# Altium integrated library Diodes - TVS.IntLib: 5379 symbols (part 38 of 122)
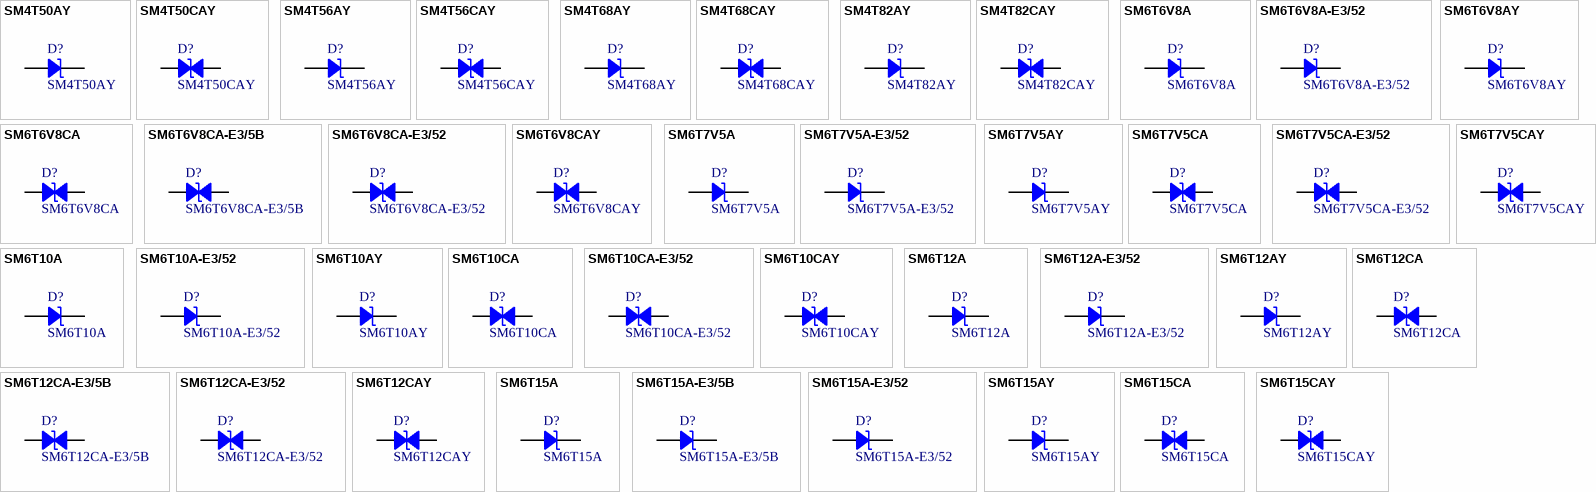
[diagram p171: symbols SM4T50AY to SM6T15CAY]

## SM4T56AY
designator D?
TVS DIODE 48V 100V SMA; Manufacturer: STMicroelectronics; Current - Peak Pulse (10/1000µs): 23A (8/20µs); Power Line Protection: No; Power - Peak Pulse: 400W; Type: Zener; Unidirectional Channels: 1; Voltage - Breakdown (Min): 53.3V; Part Number: SM4T56AY; Applications: Automotive; ComponentLink1Description: Datasheet; ComponentLink1URL: http://www.st.com/content/ccc/resource/technical/document/datasheet/8f/86/c4/c9/63/e2/4c/58/CD00283395.pdf/files/CD00283395.pdf/jcr:content/translations/en.CD00283395.pdf; ComponentLink2Description: DigiKey Link; ComponentLink2URL: http://digikey.com/product-detail/en/stmicroelectronics/SM4T56AY/497-10928-1-ND/2522551; LastUpdated: 9/2/2020 1:20:14 AM; Lifecycle Status: Active; Minimum Order: 1; Mounting Type: Surface Mount; Operating Temperature: -55°C ~ 150°C (TJ); Package / Case: DO-214AC, SMA; Packaging: TapeAndReel; PartId: 5736; Part Status: Active; Price: 0.30; Series: Automotive, AEC-Q101, SM4TY, TRANSIL™; Supplier 1: DigiKey; Supplier Part Number 1: 497-10928-1-ND; Supplier Device Package: SMA (DO-214AC); Voltage - Clamping (Max) @ Ipp: 100V; Voltage - Reverse Standoff (Typ): 48V
footprint DO214AC SMA
pins: 1, 2

## SM4T56CAY
designator D?
TVS DIODE 48V 100V SMA; Manufacturer: STMicroelectronics; Bidirectional Channels: 1; Current - Peak Pulse (10/1000µs): 23A (8/20µs); Power Line Protection: No; Power - Peak Pulse: 400W; Type: Zener; Voltage - Breakdown (Min): 53.3V; Part Number: SM4T56CAY; Applications: Automotive; ComponentLink1Description: Datasheet; ComponentLink1URL: http://www.st.com/content/ccc/resource/technical/document/datasheet/8f/86/c4/c9/63/e2/4c/58/CD00283395.pdf/files/CD00283395.pdf/jcr:content/translations/en.CD00283395.pdf; ComponentLink2Description: DigiKey Link; ComponentLink2URL: http://digikey.com/product-detail/en/stmicroelectronics/SM4T56CAY/497-10929-1-ND/2522552; LastUpdated: 9/2/2020 1:27:53 AM; Lifecycle Status: Active; Minimum Order: 1; Mounting Type: Surface Mount; Operating Temperature: -55°C ~ 150°C (TJ); Package / Case: DO-214AC, SMA; Packaging: TapeAndReel; PartId: 7537; Part Status: Active; Price: 0.31; Series: Automotive, AEC-Q101, SM4TY, TRANSIL™; Supplier 1: DigiKey; Supplier Part Number 1: 497-10929-1-ND; Supplier Device Package: SMA (DO-214AC); Voltage - Clamping (Max) @ Ipp: 100V; Voltage - Reverse Standoff (Typ): 48V
footprint DO214AC SMA
pins: 1, 2

## SM4T68AY
designator D?
TVS DIODE 58V 121V SMA; Manufacturer: STMicroelectronics; Current - Peak Pulse (10/1000µs): 19A (8/20µs); Power Line Protection: No; Power - Peak Pulse: 400W; Type: Zener; Unidirectional Channels: 1; Voltage - Breakdown (Min): 64.4V; Part Number: SM4T68AY; Applications: Automotive; ComponentLink1Description: Datasheet; ComponentLink1URL: http://www.st.com/content/ccc/resource/technical/document/datasheet/8f/86/c4/c9/63/e2/4c/58/CD00283395.pdf/files/CD00283395.pdf/jcr:content/translations/en.CD00283395.pdf; ComponentLink2Description: DigiKey Link; ComponentLink2URL: http://digikey.com/product-detail/en/stmicroelectronics/SM4T68AY/497-10930-1-ND/2522553; LastUpdated: 9/2/2020 1:20:14 AM; Lifecycle Status: Active; Minimum Order: 1; Mounting Type: Surface Mount; Operating Temperature: -55°C ~ 150°C (TJ); Package / Case: DO-214AC, SMA; Packaging: TapeAndReel; PartId: 5735; Part Status: Active; Price: 0.30; Series: Automotive, AEC-Q101, SM4TY, TRANSIL™; Supplier 1: DigiKey; Supplier Part Number 1: 497-10930-1-ND; Supplier Device Package: SMA (DO-214AC); Voltage - Clamping (Max) @ Ipp: 121V; Voltage - Reverse Standoff (Typ): 58V
footprint DO214AC SMA
pins: 1, 2

## SM4T68CAY
designator D?
TVS DIODE 58V 121V SMA; Manufacturer: STMicroelectronics; Bidirectional Channels: 1; Current - Peak Pulse (10/1000µs): 19A (8/20µs); Power Line Protection: No; Power - Peak Pulse: 400W; Type: Zener; Voltage - Breakdown (Min): 64.4V; Part Number: SM4T68CAY; Applications: Automotive; ComponentLink1Description: Datasheet; ComponentLink1URL: http://www.st.com/content/ccc/resource/technical/document/datasheet/8f/86/c4/c9/63/e2/4c/58/CD00283395.pdf/files/CD00283395.pdf/jcr:content/translations/en.CD00283395.pdf; ComponentLink2Description: DigiKey Link; ComponentLink2URL: http://digikey.com/product-detail/en/stmicroelectronics/SM4T68CAY/497-10931-1-ND/2522554; LastUpdated: 9/2/2020 1:27:51 AM; Lifecycle Status: Active; Minimum Order: 1; Mounting Type: Surface Mount; Operating Temperature: -55°C ~ 150°C (TJ); Package / Case: DO-214AC, SMA; Packaging: TapeAndReel; PartId: 7396; Part Status: Active; Price: 0.31; Series: Automotive, AEC-Q101, SM4TY, TRANSIL™; Supplier 1: DigiKey; Supplier Part Number 1: 497-10931-1-ND; Supplier Device Package: SMA (DO-214AC); Voltage - Clamping (Max) @ Ipp: 121V; Voltage - Reverse Standoff (Typ): 58V
footprint DO214AC SMA
pins: 1, 2

## SM4T82AY
designator D?
TVS DIODE 70V 146V SMA; Manufacturer: STMicroelectronics; Current - Peak Pulse (10/1000µs): 16A (8/20µs); Power Line Protection: No; Power - Peak Pulse: 400W; Type: Zener; Unidirectional Channels: 1; Voltage - Breakdown (Min): 77.8V; Part Number: SM4T82AY; Applications: Automotive; ComponentLink1Description: Datasheet; ComponentLink1URL: http://www.st.com/content/ccc/resource/technical/document/datasheet/8f/86/c4/c9/63/e2/4c/58/CD00283395.pdf/files/CD00283395.pdf/jcr:content/translations/en.CD00283395.pdf; ComponentLink2Description: DigiKey Link; ComponentLink2URL: http://digikey.com/product-detail/en/stmicroelectronics/SM4T82AY/497-11801-1-ND/2756615; LastUpdated: 9/2/2020 1:20:14 AM; Lifecycle Status: Active; Minimum Order: 1; Mounting Type: Surface Mount; Operating Temperature: -55°C ~ 150°C (TJ); Package / Case: DO-214AC, SMA; Packaging: TapeAndReel; PartId: 5730; Part Status: Active; Price: 0.17; Series: Automotive, AEC-Q101, SM4TY, TRANSIL™; Supplier 1: DigiKey; Supplier Part Number 1: 497-11801-1-ND; Supplier Device Package: SMA (DO-214AC); Voltage - Clamping (Max) @ Ipp: 146V; Voltage - Reverse Standoff (Typ): 70V
footprint DO214AC SMA
pins: 1, 2

## SM4T82CAY
designator D?
TVS DIODE 70V 146V SMA; Manufacturer: STMicroelectronics; Bidirectional Channels: 1; Current - Peak Pulse (10/1000µs): 16A (8/20µs); Power Line Protection: No; Power - Peak Pulse: 400W; Type: Zener; Voltage - Breakdown (Min): 77.8V; Part Number: SM4T82CAY; Applications: Automotive; ComponentLink1Description: Datasheet; ComponentLink1URL: http://www.st.com/content/ccc/resource/technical/document/datasheet/8f/86/c4/c9/63/e2/4c/58/CD00283395.pdf/files/CD00283395.pdf/jcr:content/translations/en.CD00283395.pdf; ComponentLink2Description: DigiKey Link; ComponentLink2URL: http://digikey.com/product-detail/en/stmicroelectronics/SM4T82CAY/497-11802-1-ND/2756621; LastUpdated: 9/2/2020 1:27:55 AM; Lifecycle Status: Active; Minimum Order: 1; Mounting Type: Surface Mount; Operating Temperature: -55°C ~ 150°C (TJ); Package / Case: DO-214AC, SMA; Packaging: TapeAndReel; PartId: 7798; Part Status: Active; Price: 0.18; Series: Automotive, AEC-Q101, SM4TY, TRANSIL™; Supplier 1: DigiKey; Supplier Part Number 1: 497-11802-1-ND; Supplier Device Package: SMA (DO-214AC); Voltage - Clamping (Max) @ Ipp: 146V; Voltage - Reverse Standoff (Typ): 70V
footprint DO214AC SMA
pins: 1, 2

## SM6T6V8A
designator D?
TVS DIODE 5.8V 13.4V SMB; Manufacturer: STMicroelectronics; Current - Peak Pulse (10/1000µs): 298A (8/20µs); Power Line Protection: No; Power - Peak Pulse: 600W; Type: Zener; Unidirectional Channels: 1; Voltage - Breakdown (Min): 6.45V; Part Number: SM6T6V8A; Applications: General Purpose; ComponentLink1Description: Datasheet; ComponentLink1URL: http://www.st.com/content/ccc/resource/technical/document/datasheet/6f/2d/a6/9e/56/51/48/15/CD00000725.pdf/files/CD00000725.pdf/jcr:content/translations/en.CD00000725.pdf; ComponentLink2Description: DigiKey Link; ComponentLink2URL: http://digikey.com/product-detail/en/stmicroelectronics/SM6T6V8A/497-6501-1-ND/1865527; LastUpdated: 9/2/2020 1:19:49 AM; Lifecycle Status: Active; Minimum Order: 1; Mounting Type: Surface Mount; Operating Temperature: -55°C ~ 150°C (TJ); Package / Case: DO-214AA, SMB; Packaging: TapeAndReel; PartId: 11130; Part Status: Active; Price: 0.08; Series: SM6T, TRANSIL™; Supplier 1: DigiKey; Supplier Part Number 1: 497-6501-1-ND; Supplier Device Package: SMB (DO-214AA); Voltage - Clamping (Max) @ Ipp: 13.4V; Voltage - Reverse Standoff (Typ): 5.8V
footprint DO214AA SMB
pins: 1, 2

## SM6T6V8A-E3/52
designator D?
TVS DIODE 5.8V 10.5V DO214AA; Manufacturer: Vishay Semiconductor Diodes Division; Current - Peak Pulse (10/1000µs): 57A; Power Line Protection: No; Power - Peak Pulse: 600W; Type: Zener; Unidirectional Channels: 1; Voltage - Breakdown (Min): 6.45V; Part Number: SM6T6V8A-E3/52; Applications: General Purpose; ComponentLink1Description: Datasheet; ComponentLink1URL: http://www.vishay.com/docs/88385/sm6t.pdf; ComponentLink2Description: DigiKey Link; ComponentLink2URL: http://digikey.com/product-detail/en/vishay-semiconductor-diodes-division/SM6T6V8A-E3-52/SM6T6V8A-E3-52GICT-ND/3026212; LastUpdated: 9/2/2020 1:19:45 AM; Lifecycle Status: Active; Minimum Order: 1; Mounting Type: Surface Mount; Operating Temperature: -65°C ~ 150°C (TJ); Package / Case: DO-214AA, SMB; Packaging: TapeAndReel; PartId: 10764; Part Status: Active; Price: 0.19; Series: SM6T, TransZorb®; Supplier 1: DigiKey; Supplier Part Number 1: SM6T6V8A-E3/52GICT-ND; Supplier Device Package: DO-214AA (SMBJ); Voltage - Clamping (Max) @ Ipp: 10.5V; Voltage - Reverse Standoff (Typ): 5.8V
footprint DO214AA SMB
pins: 1, 2

## SM6T6V8AY
designator D?
TVS DIODE 5.8V 13.4V SMB; Manufacturer: STMicroelectronics; Current - Peak Pulse (10/1000µs): 298A (8/20µs); Power Line Protection: No; Power - Peak Pulse: 600W; Type: Zener; Unidirectional Channels: 1; Voltage - Breakdown (Min): 6.45V; Part Number: SM6T6V8AY; Applications: Automotive; ComponentLink1Description: Datasheet; ComponentLink1URL: http://www.st.com/content/ccc/resource/technical/document/datasheet/7c/00/1c/38/a4/c1/4b/ae/CD00279657.pdf/files/CD00279657.pdf/jcr:content/translations/en.CD00279657.pdf; ComponentLink2Description: DigiKey Link; ComponentLink2URL: http://digikey.com/product-detail/en/stmicroelectronics/SM6T6V8AY/497-11812-1-ND/2756551; LastUpdated: 9/2/2020 1:19:46 AM; Lifecycle Status: Active; Minimum Order: 1; Mounting Type: Surface Mount; Operating Temperature: -55°C ~ 150°C (TJ); Package / Case: DO-214AA, SMB; Packaging: TapeAndReel; PartId: 10847; Part Status: Active; Price: 0.23; Series: Automotive, AEC-Q101, SM6TY, TRANSIL™; Supplier 1: DigiKey; Supplier Part Number 1: 497-11812-1-ND; Supplier Device Package: SMB (DO-214AA); Voltage - Clamping (Max) @ Ipp: 13.4V; Voltage - Reverse Standoff (Typ): 5.8V
footprint DO214AA SMB
pins: 1, 2

## SM6T6V8CA
designator D?
TVS DIODE 5.8V 13.4V SMB; Manufacturer: STMicroelectronics; Bidirectional Channels: 1; Current - Peak Pulse (10/1000µs): 298A (8/20µs); Power Line Protection: No; Power - Peak Pulse: 600W; Type: Zener; Voltage - Breakdown (Min): 6.45V; Part Number: SM6T6V8CA; Applications: General Purpose; ComponentLink1Description: Datasheet; ComponentLink1URL: http://www.st.com/content/ccc/resource/technical/document/datasheet/6f/2d/a6/9e/56/51/48/15/CD00000725.pdf/files/CD00000725.pdf/jcr:content/translations/en.CD00000725.pdf; ComponentLink2Description: DigiKey Link; ComponentLink2URL: http://digikey.com/product-detail/en/stmicroelectronics/SM6T6V8CA/497-2995-1-ND/634872; LastUpdated: 9/2/2020 1:28:21 AM; Lifecycle Status: Active; Minimum Order: 1; Mounting Type: Surface Mount; Operating Temperature: -55°C ~ 150°C (TJ); Package / Case: DO-214AA, SMB; Packaging: TapeAndReel; PartId: 9518; Part Status: Active; Price: 0.08; Series: SM6T, TRANSIL™; Supplier 1: DigiKey; Supplier Part Number 1: 497-2995-1-ND; Supplier Device Package: SMB (DO-214AA); Voltage - Clamping (Max) @ Ipp: 13.4V; Voltage - Reverse Standoff (Typ): 5.8V
footprint DO214AA SMB
pins: 1, 2

## SM6T6V8CA-E3/5B
designator D?
TVS DIODE 5.8V 10.5V DO214AA; Manufacturer: Vishay Semiconductor Diodes Division; Bidirectional Channels: 1; Current - Peak Pulse (10/1000µs): 57A; Power Line Protection: No; Power - Peak Pulse: 600W; Type: Zener; Voltage - Breakdown (Min): 6.45V; Part Number: SM6T6V8CA-E3/5B; Applications: General Purpose; ComponentLink1Description: Datasheet; ComponentLink1URL: http://www.vishay.com/docs/88385/sm6t.pdf; ComponentLink2Description: DigiKey Link; ComponentLink2URL: http://digikey.com/product-detail/en/vishay-semiconductor-diodes-division/SM6T6V8CA-E3-5B/SM6T6V8CA-E3-5BGICT-ND/9600948; LastUpdated: 9/2/2020 1:28:19 AM; Lifecycle Status: Active; Minimum Order: 1; Mounting Type: Surface Mount; Operating Temperature: -65°C ~ 150°C (TJ); Package / Case: DO-214AA, SMB; Packaging: TapeAndReel; PartId: 9330; Part Status: Active; Price: 0.14; Series: SM6T, TransZorb®; Supplier 1: DigiKey; Supplier Part Number 1: SM6T6V8CA-E3/5BGICT-ND; Supplier Device Package: DO-214AA (SMBJ); Voltage - Clamping (Max) @ Ipp: 10.5V; Voltage - Reverse Standoff (Typ): 5.8V
footprint DO214AA SMB
pins: 1, 2

## SM6T6V8CA-E3/52
designator D?
TVS DIODE 5.8V 10.5V DO214AA; Manufacturer: Vishay Semiconductor Diodes Division; Bidirectional Channels: 1; Current - Peak Pulse (10/1000µs): 57A; Power Line Protection: No; Power - Peak Pulse: 600W; Type: Zener; Voltage - Breakdown (Min): 6.45V; Part Number: SM6T6V8CA-E3/52; Applications: General Purpose; ComponentLink1Description: Datasheet; ComponentLink1URL: http://www.vishay.com/docs/88385/sm6t.pdf; ComponentLink2Description: DigiKey Link; ComponentLink2URL: http://digikey.com/product-detail/en/vishay-semiconductor-diodes-division/SM6T6V8CA-E3-52/SM6T6V8CA-E3-52GICT-ND/3711944; LastUpdated: 9/2/2020 1:28:16 AM; Lifecycle Status: Active; Minimum Order: 1; Mounting Type: Surface Mount; Operating Temperature: -65°C ~ 150°C (TJ); Package / Case: DO-214AA, SMB; Packaging: TapeAndReel; PartId: 8921; Part Status: Active; Price: 0.21; Series: SM6T, TransZorb®; Supplier 1: DigiKey; Supplier Part Number 1: SM6T6V8CA-E3/52GICT-ND; Supplier Device Package: DO-214AA (SMBJ); Voltage - Clamping (Max) @ Ipp: 10.5V; Voltage - Reverse Standoff (Typ): 5.8V
footprint DO214AA SMB
pins: 1, 2

## SM6T6V8CAY
designator D?
TVS DIODE 5.8V 13.4V SMB; Manufacturer: STMicroelectronics; Bidirectional Channels: 1; Current - Peak Pulse (10/1000µs): 298A (8/20µs); Power Line Protection: No; Power - Peak Pulse: 600W; Type: Zener; Voltage - Breakdown (Min): 6.45V; Part Number: SM6T6V8CAY; Applications: Automotive; ComponentLink1Description: Datasheet; ComponentLink1URL: http://www.st.com/content/ccc/resource/technical/document/datasheet/7c/00/1c/38/a4/c1/4b/ae/CD00279657.pdf/files/CD00279657.pdf/jcr:content/translations/en.CD00279657.pdf; ComponentLink2Description: DigiKey Link; ComponentLink2URL: http://digikey.com/product-detail/en/stmicroelectronics/SM6T6V8CAY/497-SM6T6V8CAYCT-ND/2756553; LastUpdated: 9/2/2020 1:28:15 AM; Lifecycle Status: Active; Minimum Order: 1; Mounting Type: Surface Mount; Operating Temperature: -55°C ~ 150°C (TJ); Package / Case: DO-214AA, SMB; Packaging: TapeAndReel; PartId: 8807; Part Status: Active; Price: 0.24; Series: Automotive, AEC-Q101, SM6TY, TRANSIL™; Supplier 1: DigiKey; Supplier Part Number 1: 497-SM6T6V8CAYCT-ND; Supplier Device Package: SMB (DO-214AA); Voltage - Clamping (Max) @ Ipp: 13.4V; Voltage - Reverse Standoff (Typ): 5.8V
footprint DO214AA SMB
pins: 1, 2

## SM6T7V5A
designator D?
TVS DIODE 6.4V 14.5V SMB; Manufacturer: STMicroelectronics; Current - Peak Pulse (10/1000µs): 276A (8/20µs); Power Line Protection: No; Power - Peak Pulse: 600W; Type: Zener; Unidirectional Channels: 1; Voltage - Breakdown (Min): 7.13V; Part Number: SM6T7V5A; Applications: General Purpose; ComponentLink1Description: Datasheet; ComponentLink1URL: http://www.st.com/content/ccc/resource/technical/document/datasheet/6f/2d/a6/9e/56/51/48/15/CD00000725.pdf/files/CD00000725.pdf/jcr:content/translations/en.CD00000725.pdf; ComponentLink2Description: DigiKey Link; ComponentLink2URL: http://digikey.com/product-detail/en/stmicroelectronics/SM6T7V5A/497-7439-1-ND/1883751; LastUpdated: 9/2/2020 1:19:44 AM; Lifecycle Status: Active; Minimum Order: 1; Mounting Type: Surface Mount; Operating Temperature: -55°C ~ 150°C (TJ); Package / Case: DO-214AA, SMB; Packaging: TapeAndReel; PartId: 10622; Part Status: Active; Price: 0.15; Series: SM6T, TRANSIL™; Supplier 1: DigiKey; Supplier Part Number 1: 497-7439-1-ND; Supplier Device Package: SMB (DO-214AA); Voltage - Clamping (Max) @ Ipp: 14.5V; Voltage - Reverse Standoff (Typ): 6.4V
footprint DO214AA SMB
pins: 1, 2

## SM6T7V5A-E3/52
designator D?
TVS DIODE 6.4V 11.3V DO214AA; Manufacturer: Vishay Semiconductor Diodes Division; Current - Peak Pulse (10/1000µs): 53A; Power Line Protection: No; Power - Peak Pulse: 600W; Type: Zener; Unidirectional Channels: 1; Voltage - Breakdown (Min): 7.13V; Part Number: SM6T7V5A-E3/52; Applications: General Purpose; ComponentLink1Description: Datasheet; ComponentLink1URL: http://www.vishay.com/docs/88385/sm6t.pdf; ComponentLink2Description: DigiKey Link; ComponentLink2URL: http://digikey.com/product-detail/en/vishay-semiconductor-diodes-division/SM6T7V5A-E3-52/SM6T7V5A-E3-52GICT-ND/3711945; LastUpdated: 9/2/2020 1:19:45 AM; Lifecycle Status: Active; Minimum Order: 1; Mounting Type: Surface Mount; Operating Temperature: -65°C ~ 150°C (TJ); Package / Case: DO-214AA, SMB; Packaging: TapeAndReel; PartId: 10765; Part Status: Active; Price: 0.19; Series: SM6T, TransZorb®; Supplier 1: DigiKey; Supplier Part Number 1: SM6T7V5A-E3/52GICT-ND; Supplier Device Package: DO-214AA (SMBJ); Voltage - Clamping (Max) @ Ipp: 11.3V; Voltage - Reverse Standoff (Typ): 6.4V
footprint DO214AA SMB
pins: 1, 2

## SM6T7V5AY
designator D?
TVS DIODE 6.4V 14.5V SMB; Manufacturer: STMicroelectronics; Current - Peak Pulse (10/1000µs): 276A (8/20µs); Power Line Protection: No; Power - Peak Pulse: 600W; Type: Zener; Unidirectional Channels: 1; Voltage - Breakdown (Min): 7.13V; Part Number: SM6T7V5AY; Applications: Automotive; ComponentLink1Description: Datasheet; ComponentLink1URL: http://www.st.com/content/ccc/resource/technical/document/datasheet/7c/00/1c/38/a4/c1/4b/ae/CD00279657.pdf/files/CD00279657.pdf/jcr:content/translations/en.CD00279657.pdf; ComponentLink2Description: DigiKey Link; ComponentLink2URL: http://digikey.com/product-detail/en/stmicroelectronics/SM6T7V5AY/497-10938-1-ND/2522561; LastUpdated: 9/2/2020 1:19:50 AM; Lifecycle Status: Active; Minimum Order: 1; Mounting Type: Surface Mount; Operating Temperature: -55°C ~ 150°C (TJ); Package / Case: DO-214AA, SMB; Packaging: TapeAndReel; PartId: 11278; Part Status: Active; Price: 0.36; Series: Automotive, AEC-Q101, SM6TY, TRANSIL™; Supplier 1: DigiKey; Supplier Part Number 1: 497-10938-1-ND; Supplier Device Package: SMB (DO-214AA); Voltage - Clamping (Max) @ Ipp: 14.5V; Voltage - Reverse Standoff (Typ): 6.4V
footprint DO214AA SMB
pins: 1, 2

## SM6T7V5CA
designator D?
TVS DIODE 6.4V 14.5V SMB; Manufacturer: STMicroelectronics; Bidirectional Channels: 1; Current - Peak Pulse (10/1000µs): 276A (8/20µs); Power Line Protection: No; Power - Peak Pulse: 600W; Type: Zener; Voltage - Breakdown (Min): 7.13V; Part Number: SM6T7V5CA; Applications: General Purpose; ComponentLink1Description: Datasheet; ComponentLink1URL: http://www.st.com/content/ccc/resource/technical/document/datasheet/6f/2d/a6/9e/56/51/48/15/CD00000725.pdf/files/CD00000725.pdf/jcr:content/translations/en.CD00000725.pdf; ComponentLink2Description: DigiKey Link; ComponentLink2URL: http://digikey.com/product-detail/en/stmicroelectronics/SM6T7V5CA/497-6502-1-ND/1865516; LastUpdated: 9/2/2020 1:28:21 AM; Lifecycle Status: Active; Minimum Order: 1; Mounting Type: Surface Mount; Operating Temperature: -55°C ~ 150°C (TJ); Package / Case: DO-214AA, SMB; Packaging: TapeAndReel; PartId: 9535; Part Status: Active; Price: 0.15; Series: SM6T, TRANSIL™; Supplier 1: DigiKey; Supplier Part Number 1: 497-6502-1-ND; Supplier Device Package: SMB (DO-214AA); Voltage - Clamping (Max) @ Ipp: 14.5V; Voltage - Reverse Standoff (Typ): 6.4V
footprint DO214AA SMB
pins: 1, 2

## SM6T7V5CA-E3/52
designator D?
TVS DIODE 6.4V 11.3V DO214AA; Manufacturer: Vishay Semiconductor Diodes Division; Bidirectional Channels: 1; Current - Peak Pulse (10/1000µs): 53A; Power Line Protection: No; Power - Peak Pulse: 600W; Type: Zener; Voltage - Breakdown (Min): 7.13V; Part Number: SM6T7V5CA-E3/52; Applications: General Purpose; ComponentLink1Description: Datasheet; ComponentLink1URL: http://www.vishay.com/docs/88385/sm6t.pdf; ComponentLink2Description: DigiKey Link; ComponentLink2URL: http://digikey.com/product-detail/en/vishay-semiconductor-diodes-division/SM6T7V5CA-E3-52/SM6T7V5CA-E3-52GICT-ND/5639143; LastUpdated: 9/2/2020 1:28:21 AM; Lifecycle Status: Active; Minimum Order: 1; Mounting Type: Surface Mount; Operating Temperature: -65°C ~ 150°C (TJ); Package / Case: DO-214AA, SMB; Packaging: TapeAndReel; PartId: 9600; Part Status: Active; Price: 0.22; Series: SM6T, TransZorb®; Supplier 1: DigiKey; Supplier Part Number 1: SM6T7V5CA-E3/52GICT-ND; Supplier Device Package: DO-214AA (SMBJ); Voltage - Clamping (Max) @ Ipp: 11.3V; Voltage - Reverse Standoff (Typ): 6.4V
footprint DO214AA SMB
pins: 1, 2

## SM6T7V5CAY
designator D?
TVS DIODE 6.4V 14.5V SMB; Manufacturer: STMicroelectronics; Bidirectional Channels: 1; Current - Peak Pulse (10/1000µs): 276A (8/20µs); Power Line Protection: No; Power - Peak Pulse: 600W; Type: Zener; Voltage - Breakdown (Min): 7.13V; Part Number: SM6T7V5CAY; Applications: Automotive; ComponentLink1Description: Datasheet; ComponentLink1URL: http://www.st.com/content/ccc/resource/technical/document/datasheet/7c/00/1c/38/a4/c1/4b/ae/CD00279657.pdf/files/CD00279657.pdf/jcr:content/translations/en.CD00279657.pdf; ComponentLink2Description: DigiKey Link; ComponentLink2URL: http://digikey.com/product-detail/en/stmicroelectronics/SM6T7V5CAY/497-11816-1-ND/2756555; LastUpdated: 9/2/2020 1:28:17 AM; Lifecycle Status: Active; Minimum Order: 1; Mounting Type: Surface Mount; Operating Temperature: -55°C ~ 150°C (TJ); Package / Case: DO-214AA, SMB; Packaging: TapeAndReel; PartId: 9094; Part Status: Active; Price: 0.24; Series: Automotive, AEC-Q101, SM6TY, TRANSIL™; Supplier 1: DigiKey; Supplier Part Number 1: 497-11816-1-ND; Supplier Device Package: SMB (DO-214AA); Voltage - Clamping (Max) @ Ipp: 14.5V; Voltage - Reverse Standoff (Typ): 6.4V
footprint DO214AA SMB
pins: 1, 2

## SM6T10A
designator D?
TVS DIODE 8.55V 18.6V SMB; Manufacturer: STMicroelectronics; Current - Peak Pulse (10/1000µs): 215A (8/20µs); Power Line Protection: No; Power - Peak Pulse: 600W; Type: Zener; Unidirectional Channels: 1; Voltage - Breakdown (Min): 9.5V; Part Number: SM6T10A; Applications: General Purpose; ComponentLink1Description: Datasheet; ComponentLink1URL: http://www.st.com/content/ccc/resource/technical/document/datasheet/6f/2d/a6/9e/56/51/48/15/CD00000725.pdf/files/CD00000725.pdf/jcr:content/translations/en.CD00000725.pdf; ComponentLink2Description: DigiKey Link; ComponentLink2URL: http://digikey.com/product-detail/en/stmicroelectronics/SM6T10A/497-14166-1-ND/4503549; LastUpdated: 9/2/2020 1:19:44 AM; Lifecycle Status: Active; Minimum Order: 1; Mounting Type: Surface Mount; Operating Temperature: -55°C ~ 150°C (TJ); Package / Case: DO-214AA, SMB; Packaging: TapeAndReel; PartId: 10676; Part Status: Active; Price: 0.15; Series: SM6T, TRANSIL™; Supplier 1: DigiKey; Supplier Part Number 1: 497-14166-1-ND; Supplier Device Package: SMB (DO-214AA); Voltage - Clamping (Max) @ Ipp: 18.6V; Voltage - Reverse Standoff (Typ): 8.55V
footprint DO214AA SMB
pins: 1, 2

## SM6T10A-E3/52
designator D?
TVS DIODE 8.55V 14.5V DO214AA; Manufacturer: Vishay Semiconductor Diodes Division; Current - Peak Pulse (10/1000µs): 41A; Power Line Protection: No; Power - Peak Pulse: 600W; Type: Zener; Unidirectional Channels: 1; Voltage - Breakdown (Min): 9.5V; Part Number: SM6T10A-E3/52; Applications: General Purpose; ComponentLink1Description: Datasheet; ComponentLink1URL: http://www.vishay.com/docs/88385/sm6t.pdf; ComponentLink2Description: DigiKey Link; ComponentLink2URL: http://digikey.com/product-detail/en/vishay-semiconductor-diodes-division/SM6T10A-E3-52/SM6T10A-E3-52GICT-ND/5639123; LastUpdated: 9/2/2020 1:19:43 AM; Lifecycle Status: Active; Minimum Order: 1; Mounting Type: Surface Mount; Operating Temperature: -65°C ~ 150°C (TJ); Package / Case: DO-214AA, SMB; Packaging: TapeAndReel; PartId: 10595; Part Status: Active; Price: 0.19; Series: SM6T, TransZorb®; Supplier 1: DigiKey; Supplier Part Number 1: SM6T10A-E3/52GICT-ND; Supplier Device Package: DO-214AA (SMBJ); Voltage - Clamping (Max) @ Ipp: 14.5V; Voltage - Reverse Standoff (Typ): 8.55V
footprint DO214AA SMB
pins: 1, 2

## SM6T10AY
designator D?
TVS DIODE 8.55V 18.6V SMB; Manufacturer: STMicroelectronics; Current - Peak Pulse (10/1000µs): 215A (8/20µs); Power Line Protection: No; Power - Peak Pulse: 600W; Type: Zener; Unidirectional Channels: 1; Voltage - Breakdown (Min): 9.5V; Part Number: SM6T10AY; Applications: Automotive; ComponentLink1Description: Datasheet; ComponentLink1URL: http://www.st.com/content/ccc/resource/technical/document/datasheet/7c/00/1c/38/a4/c1/4b/ae/CD00279657.pdf/files/CD00279657.pdf/jcr:content/translations/en.CD00279657.pdf; ComponentLink2Description: DigiKey Link; ComponentLink2URL: http://digikey.com/product-detail/en/stmicroelectronics/SM6T10AY/497-11803-1-ND/2756552; LastUpdated: 9/2/2020 1:19:45 AM; Lifecycle Status: Active; Minimum Order: 1; Mounting Type: Surface Mount; Operating Temperature: -55°C ~ 150°C (TJ); Package / Case: DO-214AA, SMB; Packaging: TapeAndReel; PartId: 10755; Part Status: Active; Price: 0.23; Series: Automotive, AEC-Q101, SM6TY, TRANSIL™; Supplier 1: DigiKey; Supplier Part Number 1: 497-11803-1-ND; Supplier Device Package: SMB (DO-214AA); Voltage - Clamping (Max) @ Ipp: 18.6V; Voltage - Reverse Standoff (Typ): 8.55V
footprint DO214AA SMB
pins: 1, 2

## SM6T10CA
designator D?
TVS DIODE 8.55V 18.6V SMB; Manufacturer: STMicroelectronics; Bidirectional Channels: 1; Current - Peak Pulse (10/1000µs): 215A (8/20µs); Power Line Protection: No; Power - Peak Pulse: 600W; Type: Zener; Voltage - Breakdown (Min): 9.5V; Part Number: SM6T10CA; Applications: General Purpose; ComponentLink1Description: Datasheet; ComponentLink1URL: http://www.st.com/content/ccc/resource/technical/document/datasheet/6f/2d/a6/9e/56/51/48/15/CD00000725.pdf/files/CD00000725.pdf/jcr:content/translations/en.CD00000725.pdf; ComponentLink2Description: DigiKey Link; ComponentLink2URL: http://digikey.com/product-detail/en/stmicroelectronics/SM6T10CA/497-7427-1-ND/1883356; LastUpdated: 9/2/2020 1:28:21 AM; Lifecycle Status: Active; Minimum Order: 1; Mounting Type: Surface Mount; Operating Temperature: -55°C ~ 150°C (TJ); Package / Case: DO-214AA, SMB; Packaging: TapeAndReel; PartId: 9468; Part Status: Active; Price: 0.16; Series: SM6T, TRANSIL™; Supplier 1: DigiKey; Supplier Part Number 1: 497-7427-1-ND; Supplier Device Package: SMB (DO-214AA); Voltage - Clamping (Max) @ Ipp: 18.6V; Voltage - Reverse Standoff (Typ): 8.55V
footprint DO214AA SMB
pins: 1, 2

## SM6T10CA-E3/52
designator D?
TVS DIODE 8.55V 14.5V DO214AA; Manufacturer: Vishay Semiconductor Diodes Division; Bidirectional Channels: 1; Current - Peak Pulse (10/1000µs): 41A; Power Line Protection: No; Power - Peak Pulse: 600W; Type: Zener; Voltage - Breakdown (Min): 9.5V; Part Number: SM6T10CA-E3/52; Applications: General Purpose; ComponentLink1Description: Datasheet; ComponentLink1URL: http://www.vishay.com/docs/88385/sm6t.pdf; ComponentLink2Description: DigiKey Link; ComponentLink2URL: http://digikey.com/product-detail/en/vishay-semiconductor-diodes-division/SM6T10CA-E3-52/SM6T10CA-E3-52GICT-ND/5639124; LastUpdated: 9/2/2020 1:28:20 AM; Lifecycle Status: Active; Minimum Order: 1; Mounting Type: Surface Mount; Operating Temperature: -65°C ~ 150°C (TJ); Package / Case: DO-214AA, SMB; Packaging: TapeAndReel; PartId: 9458; Part Status: Active; Price: 0.22; Series: SM6T, TransZorb®; Supplier 1: DigiKey; Supplier Part Number 1: SM6T10CA-E3/52GICT-ND; Supplier Device Package: DO-214AA (SMBJ); Voltage - Clamping (Max) @ Ipp: 14.5V; Voltage - Reverse Standoff (Typ): 8.55V
footprint DO214AA SMB
pins: 1, 2

## SM6T10CAY
designator D?
TVS DIODE 8.55V 18.6V SMB; Manufacturer: STMicroelectronics; Bidirectional Channels: 1; Current - Peak Pulse (10/1000µs): 215A (8/20µs); Power Line Protection: No; Power - Peak Pulse: 600W; Type: Zener; Voltage - Breakdown (Min): 9.5V; Part Number: SM6T10CAY; Applications: Automotive; ComponentLink1Description: Datasheet; ComponentLink1URL: http://www.st.com/content/ccc/resource/technical/document/datasheet/7c/00/1c/38/a4/c1/4b/ae/CD00279657.pdf/files/CD00279657.pdf/jcr:content/translations/en.CD00279657.pdf; ComponentLink2Description: DigiKey Link; ComponentLink2URL: http://digikey.com/product-detail/en/stmicroelectronics/SM6T10CAY/497-11804-1-ND/2756559; LastUpdated: 9/2/2020 1:28:16 AM; Lifecycle Status: Active; Minimum Order: 1; Mounting Type: Surface Mount; Operating Temperature: -55°C ~ 150°C (TJ); Package / Case: DO-214AA, SMB; Packaging: TapeAndReel; PartId: 8920; Part Status: Active; Price: 0.24; Series: Automotive, AEC-Q101, SM6TY, TRANSIL™; Supplier 1: DigiKey; Supplier Part Number 1: 497-11804-1-ND; Supplier Device Package: SMB (DO-214AA); Voltage - Clamping (Max) @ Ipp: 18.6V; Voltage - Reverse Standoff (Typ): 8.55V
footprint DO214AA SMB
pins: 1, 2

## SM6T12A
designator D?
TVS DIODE 10.2V 21.7V SMB; Manufacturer: STMicroelectronics; Current - Peak Pulse (10/1000µs): 184A (8/20µs); Power Line Protection: No; Power - Peak Pulse: 600W; Type: Zener; Unidirectional Channels: 1; Voltage - Breakdown (Min): 11.4V; Part Number: SM6T12A; Applications: General Purpose; ComponentLink1Description: Datasheet; ComponentLink1URL: http://www.st.com/content/ccc/resource/technical/document/datasheet/6f/2d/a6/9e/56/51/48/15/CD00000725.pdf/files/CD00000725.pdf/jcr:content/translations/en.CD00000725.pdf; ComponentLink2Description: DigiKey Link; ComponentLink2URL: http://digikey.com/product-detail/en/stmicroelectronics/SM6T12A/497-12775-1-ND/2873842; LastUpdated: 9/2/2020 1:19:49 AM; Lifecycle Status: Active; Minimum Order: 1; Mounting Type: Surface Mount; Operating Temperature: -55°C ~ 150°C (TJ); Package / Case: DO-214AA, SMB; Packaging: TapeAndReel; PartId: 11195; Part Status: Active; Price: 0.15; Series: SM6T, TRANSIL™; Supplier 1: DigiKey; Supplier Part Number 1: 497-12775-1-ND; Supplier Device Package: SMB (DO-214AA); Voltage - Clamping (Max) @ Ipp: 21.7V; Voltage - Reverse Standoff (Typ): 10.2V
footprint DO214AA SMB
pins: 1, 2

## SM6T12A-E3/52
designator D?
TVS DIODE 10.2V 16.7V DO214AA; Manufacturer: Vishay Semiconductor Diodes Division; Current - Peak Pulse (10/1000µs): 36A; Power Line Protection: No; Power - Peak Pulse: 600W; Type: Zener; Unidirectional Channels: 1; Voltage - Breakdown (Min): 11.4V; Part Number: SM6T12A-E3/52; Applications: General Purpose; ComponentLink1Description: Datasheet; ComponentLink1URL: http://www.vishay.com/docs/88385/sm6t.pdf; ComponentLink2Description: DigiKey Link; ComponentLink2URL: http://digikey.com/product-detail/en/vishay-semiconductor-diodes-division/SM6T12A-E3-52/SM6T12A-E3-52GICT-ND/5639125; LastUpdated: 9/2/2020 1:19:48 AM; Lifecycle Status: Active; Minimum Order: 1; Mounting Type: Surface Mount; Operating Temperature: -65°C ~ 150°C (TJ); Package / Case: DO-214AA, SMB; Packaging: TapeAndReel; PartId: 11020; Part Status: Active; Price: 0.19; Series: SM6T, TransZorb®; Supplier 1: DigiKey; Supplier Part Number 1: SM6T12A-E3/52GICT-ND; Supplier Device Package: DO-214AA (SMBJ); Voltage - Clamping (Max) @ Ipp: 16.7V; Voltage - Reverse Standoff (Typ): 10.2V
footprint DO214AA SMB
pins: 1, 2

## SM6T12AY
designator D?
TVS DIODE 10.2V 21.7V SMB; Manufacturer: STMicroelectronics; Current - Peak Pulse (10/1000µs): 184A (8/20µs); Power Line Protection: No; Power - Peak Pulse: 600W; Type: Zener; Unidirectional Channels: 1; Voltage - Breakdown (Min): 11.4V; Part Number: SM6T12AY; Applications: Automotive; ComponentLink1Description: Datasheet; ComponentLink1URL: http://www.st.com/content/ccc/resource/technical/document/datasheet/7c/00/1c/38/a4/c1/4b/ae/CD00279657.pdf/files/CD00279657.pdf/jcr:content/translations/en.CD00279657.pdf; ComponentLink2Description: DigiKey Link; ComponentLink2URL: http://digikey.com/product-detail/en/stmicroelectronics/SM6T12AY/497-11805-1-ND/2756545; LastUpdated: 9/2/2020 1:19:43 AM; Lifecycle Status: Active; Minimum Order: 1; Mounting Type: Surface Mount; Operating Temperature: -55°C ~ 150°C (TJ); Package / Case: DO-214AA, SMB; Packaging: TapeAndReel; PartId: 10590; Part Status: Active; Price: 0.23; Series: Automotive, AEC-Q101, SM6TY, TRANSIL™; Supplier 1: DigiKey; Supplier Part Number 1: 497-11805-1-ND; Supplier Device Package: SMB (DO-214AA); Voltage - Clamping (Max) @ Ipp: 21.7V; Voltage - Reverse Standoff (Typ): 10.2V
footprint DO214AA SMB
pins: 1, 2

## SM6T12CA
designator D?
TVS DIODE 10.2V 21.7V SMB; Manufacturer: STMicroelectronics; Bidirectional Channels: 1; Current - Peak Pulse (10/1000µs): 184A (8/20µs); Power Line Protection: No; Power - Peak Pulse: 600W; Type: Zener; Voltage - Breakdown (Min): 11.4V; Part Number: SM6T12CA; Applications: General Purpose; ComponentLink1Description: Datasheet; ComponentLink1URL: http://www.st.com/content/ccc/resource/technical/document/datasheet/6f/2d/a6/9e/56/51/48/15/CD00000725.pdf/files/CD00000725.pdf/jcr:content/translations/en.CD00000725.pdf; ComponentLink2Description: DigiKey Link; ComponentLink2URL: http://digikey.com/product-detail/en/stmicroelectronics/SM6T12CA/497-7428-1-ND/1883864; LastUpdated: 9/2/2020 1:28:21 AM; Lifecycle Status: Active; Minimum Order: 1; Mounting Type: Surface Mount; Operating Temperature: -55°C ~ 150°C (TJ); Package / Case: DO-214AA, SMB; Packaging: TapeAndReel; PartId: 9517; Part Status: Active; Price: 0.16; Series: SM6T, TRANSIL™; Supplier 1: DigiKey; Supplier Part Number 1: 497-7428-1-ND; Supplier Device Package: SMB (DO-214AA); Voltage - Clamping (Max) @ Ipp: 21.7V; Voltage - Reverse Standoff (Typ): 10.2V
footprint DO214AA SMB
pins: 1, 2

## SM6T12CA-E3/5B
designator D?
TVS DIODE 10.2V 16.7V DO214AA; Manufacturer: Vishay Semiconductor Diodes Division; Bidirectional Channels: 1; Current - Peak Pulse (10/1000µs): 36A; Power Line Protection: No; Power - Peak Pulse: 600W; Type: Zener; Voltage - Breakdown (Min): 11.4V; Part Number: SM6T12CA-E3/5B; Applications: General Purpose; ComponentLink1Description: Datasheet; ComponentLink1URL: http://www.vishay.com/docs/88385/sm6t.pdf; ComponentLink2Description: DigiKey Link; ComponentLink2URL: http://digikey.com/product-detail/en/vishay-semiconductor-diodes-division/SM6T12CA-E3-5B/SM6T12CA-E3-5BGICT-ND/9600939; LastUpdated: 9/2/2020 1:28:19 AM; Lifecycle Status: Active; Minimum Order: 1; Mounting Type: Surface Mount; Operating Temperature: -65°C ~ 150°C (TJ); Package / Case: DO-214AA, SMB; Packaging: TapeAndReel; PartId: 9331; Part Status: Active; Price: 0.14; Series: SM6T, TransZorb®; Supplier 1: DigiKey; Supplier Part Number 1: SM6T12CA-E3/5BGICT-ND; Supplier Device Package: DO-214AA (SMBJ); Voltage - Clamping (Max) @ Ipp: 16.7V; Voltage - Reverse Standoff (Typ): 10.2V
footprint DO214AA SMB
pins: 1, 2

## SM6T12CA-E3/52
designator D?
TVS DIODE 10.2V 16.7V DO214AA; Manufacturer: Vishay Semiconductor Diodes Division; Bidirectional Channels: 1; Current - Peak Pulse (10/1000µs): 36A; Power Line Protection: No; Power - Peak Pulse: 600W; Type: Zener; Voltage - Breakdown (Min): 11.4V; Part Number: SM6T12CA-E3/52; Applications: General Purpose; ComponentLink1Description: Datasheet; ComponentLink1URL: http://www.vishay.com/docs/88385/sm6t.pdf; ComponentLink2Description: DigiKey Link; ComponentLink2URL: http://digikey.com/product-detail/en/vishay-semiconductor-diodes-division/SM6T12CA-E3-52/SM6T12CA-E3-52GICT-ND/5639126; LastUpdated: 9/2/2020 1:28:19 AM; Lifecycle Status: Active; Minimum Order: 1; Mounting Type: Surface Mount; Operating Temperature: -65°C ~ 150°C (TJ); Package / Case: DO-214AA, SMB; Packaging: TapeAndReel; PartId: 9320; Part Status: Active; Price: 0.22; Series: SM6T, TransZorb®; Supplier 1: DigiKey; Supplier Part Number 1: SM6T12CA-E3/52GICT-ND; Supplier Device Package: DO-214AA (SMBJ); Voltage - Clamping (Max) @ Ipp: 16.7V; Voltage - Reverse Standoff (Typ): 10.2V
footprint DO214AA SMB
pins: 1, 2

## SM6T12CAY
designator D?
TVS DIODE 10.2V 21.7V SMB; Manufacturer: STMicroelectronics; Bidirectional Channels: 1; Current - Peak Pulse (10/1000µs): 184A (8/20µs); Power Line Protection: No; Power - Peak Pulse: 600W; Type: Zener; Voltage - Breakdown (Min): 11.4V; Part Number: SM6T12CAY; Applications: Automotive; ComponentLink1Description: Datasheet; ComponentLink1URL: http://www.st.com/content/ccc/resource/technical/document/datasheet/7c/00/1c/38/a4/c1/4b/ae/CD00279657.pdf/files/CD00279657.pdf/jcr:content/translations/en.CD00279657.pdf; ComponentLink2Description: DigiKey Link; ComponentLink2URL: http://digikey.com/product-detail/en/stmicroelectronics/SM6T12CAY/497-11806-1-ND/2756546; LastUpdated: 9/2/2020 1:28:21 AM; Lifecycle Status: Active; Minimum Order: 1; Mounting Type: Surface Mount; Operating Temperature: -55°C ~ 150°C (TJ); Package / Case: DO-214AA, SMB; Packaging: TapeAndReel; PartId: 9559; Part Status: Active; Price: 0.24; Series: Automotive, AEC-Q101, SM6TY, TRANSIL™; Supplier 1: DigiKey; Supplier Part Number 1: 497-11806-1-ND; Supplier Device Package: SMB (DO-214AA); Voltage - Clamping (Max) @ Ipp: 21.7V; Voltage - Reverse Standoff (Typ): 10.2V
footprint DO214AA SMB
pins: 1, 2

## SM6T15A
designator D?
TVS DIODE 12.8V 27.2V SMB; Manufacturer: STMicroelectronics; Current - Peak Pulse (10/1000µs): 147A (8/20µs); Power Line Protection: No; Power - Peak Pulse: 600W; Type: Zener; Unidirectional Channels: 1; Voltage - Breakdown (Min): 14.3V; Part Number: SM6T15A; Applications: General Purpose; ComponentLink1Description: Datasheet; ComponentLink1URL: http://www.st.com/content/ccc/resource/technical/document/datasheet/6f/2d/a6/9e/56/51/48/15/CD00000725.pdf/files/CD00000725.pdf/jcr:content/translations/en.CD00000725.pdf; ComponentLink2Description: DigiKey Link; ComponentLink2URL: http://digikey.com/product-detail/en/stmicroelectronics/SM6T15A/497-7430-1-ND/1883451; LastUpdated: 9/2/2020 1:19:49 AM; Lifecycle Status: Active; Minimum Order: 1; Mounting Type: Surface Mount; Operating Temperature: -55°C ~ 150°C (TJ); Package / Case: DO-214AA, SMB; Packaging: TapeAndReel; PartId: 11096; Part Status: Active; Price: 0.15; Series: SM6T, TRANSIL™; Supplier 1: DigiKey; Supplier Part Number 1: 497-7430-1-ND; Supplier Device Package: SMB (DO-214AA); Voltage - Clamping (Max) @ Ipp: 27.2V; Voltage - Reverse Standoff (Typ): 12.8V
footprint DO214AA SMB
pins: 1, 2

## SM6T15A-E3/5B
designator D?
TVS DIODE 12.8V 21.2V DO214AA; Manufacturer: Vishay Semiconductor Diodes Division; Current - Peak Pulse (10/1000µs): 28A; Power Line Protection: No; Power - Peak Pulse: 600W; Type: Zener; Unidirectional Channels: 1; Voltage - Breakdown (Min): 14.3V; Part Number: SM6T15A-E3/5B; Applications: General Purpose; ComponentLink1Description: Datasheet; ComponentLink1URL: http://www.vishay.com/docs/88385/sm6t.pdf; ComponentLink2Description: DigiKey Link; ComponentLink2URL: http://digikey.com/product-detail/en/vishay-semiconductor-diodes-division/SM6T15A-E3-5B/SM6T15A-E3-5BGICT-ND/9600940; LastUpdated: 9/2/2020 1:19:48 AM; Lifecycle Status: Active; Minimum Order: 1; Mounting Type: Surface Mount; Operating Temperature: -65°C ~ 150°C (TJ); Package / Case: DO-214AA, SMB; Packaging: TapeAndReel; PartId: 11075; Part Status: Active; Price: 0.13; Series: SM6T, TransZorb®; Supplier 1: DigiKey; Supplier Part Number 1: SM6T15A-E3/5BGICT-ND; Supplier Device Package: DO-214AA (SMBJ); Voltage - Clamping (Max) @ Ipp: 21.2V; Voltage - Reverse Standoff (Typ): 12.8V
footprint DO214AA SMB
pins: 1, 2

## SM6T15A-E3/52
designator D?
TVS DIODE 12.8V 21.2V DO214AA; Manufacturer: Vishay Semiconductor Diodes Division; Current - Peak Pulse (10/1000µs): 28A; Power Line Protection: No; Power - Peak Pulse: 600W; Type: Zener; Unidirectional Channels: 1; Voltage - Breakdown (Min): 14.3V; Part Number: SM6T15A-E3/52; Applications: General Purpose; ComponentLink1Description: Datasheet; ComponentLink1URL: http://www.vishay.com/docs/88385/sm6t.pdf; ComponentLink2Description: DigiKey Link; ComponentLink2URL: http://digikey.com/product-detail/en/vishay-semiconductor-diodes-division/SM6T15A-E3-52/SM6T15A-E3-52GICT-ND/3711939; LastUpdated: 9/2/2020 1:19:43 AM; Lifecycle Status: Active; Minimum Order: 1; Mounting Type: Surface Mount; Operating Temperature: -65°C ~ 150°C (TJ); Package / Case: DO-214AA, SMB; Packaging: TapeAndReel; PartId: 10598; Part Status: Active; Price: 0.19; Series: SM6T, TransZorb®; Supplier 1: DigiKey; Supplier Part Number 1: SM6T15A-E3/52GICT-ND; Supplier Device Package: DO-214AA (SMBJ); Voltage - Clamping (Max) @ Ipp: 21.2V; Voltage - Reverse Standoff (Typ): 12.8V
footprint DO214AA SMB
pins: 1, 2

## SM6T15AY
designator D?
TVS DIODE 12.8V 27.2V SMB; Manufacturer: STMicroelectronics; Current - Peak Pulse (10/1000µs): 147A (8/20µs); Power Line Protection: No; Power - Peak Pulse: 600W; Type: Zener; Unidirectional Channels: 1; Voltage - Breakdown (Min): 14.3V; Part Number: SM6T15AY; Applications: Automotive; ComponentLink1Description: Datasheet; ComponentLink1URL: http://www.st.com/content/ccc/resource/technical/document/datasheet/7c/00/1c/38/a4/c1/4b/ae/CD00279657.pdf/files/CD00279657.pdf/jcr:content/translations/en.CD00279657.pdf; ComponentLink2Description: DigiKey Link; ComponentLink2URL: http://digikey.com/product-detail/en/stmicroelectronics/SM6T15AY/497-11807-1-ND/2756547; LastUpdated: 9/2/2020 1:19:46 AM; Lifecycle Status: Active; Minimum Order: 1; Mounting Type: Surface Mount; Operating Temperature: -55°C ~ 150°C (TJ); Package / Case: DO-214AA, SMB; Packaging: TapeAndReel; PartId: 10826; Part Status: Active; Price: 0.23; Series: Automotive, AEC-Q101, SM6TY, TRANSIL™; Supplier 1: DigiKey; Supplier Part Number 1: 497-11807-1-ND; Supplier Device Package: SMB (DO-214AA); Voltage - Clamping (Max) @ Ipp: 27.2V; Voltage - Reverse Standoff (Typ): 12.8V
footprint DO214AA SMB
pins: 1, 2

## SM6T15CA
designator D?
TVS DIODE 12.8V 27.2V SMB; Manufacturer: STMicroelectronics; Bidirectional Channels: 1; Current - Peak Pulse (10/1000µs): 147A (8/20µs); Power Line Protection: No; Power - Peak Pulse: 600W; Type: Zener; Voltage - Breakdown (Min): 14.3V; Part Number: SM6T15CA; Applications: General Purpose; ComponentLink1Description: Datasheet; ComponentLink1URL: http://www.st.com/content/ccc/resource/technical/document/datasheet/6f/2d/a6/9e/56/51/48/15/CD00000725.pdf/files/CD00000725.pdf/jcr:content/translations/en.CD00000725.pdf; ComponentLink2Description: DigiKey Link; ComponentLink2URL: http://digikey.com/product-detail/en/stmicroelectronics/SM6T15CA/497-2994-1-ND/634868; LastUpdated: 9/2/2020 1:28:21 AM; Lifecycle Status: Active; Minimum Order: 1; Mounting Type: Surface Mount; Operating Temperature: -55°C ~ 150°C (TJ); Package / Case: DO-214AA, SMB; Packaging: TapeAndReel; PartId: 9467; Part Status: Active; Price: 0.16; Series: SM6T, TRANSIL™; Supplier 1: DigiKey; Supplier Part Number 1: 497-2994-1-ND; Supplier Device Package: SMB (DO-214AA); Voltage - Clamping (Max) @ Ipp: 27.2V; Voltage - Reverse Standoff (Typ): 12.8V
footprint DO214AA SMB
pins: 1, 2

## SM6T15CAY
designator D?
TVS DIODE 12.8V 27.2V SMB; Manufacturer: STMicroelectronics; Bidirectional Channels: 1; Current - Peak Pulse (10/1000µs): 147A (8/20µs); Power Line Protection: No; Power - Peak Pulse: 600W; Type: Zener; Voltage - Breakdown (Min): 14.3V; Part Number: SM6T15CAY; Applications: Automotive; ComponentLink1Description: Datasheet; ComponentLink1URL: http://www.st.com/content/ccc/resource/technical/document/datasheet/7c/00/1c/38/a4/c1/4b/ae/CD00279657.pdf/files/CD00279657.pdf/jcr:content/translations/en.CD00279657.pdf; ComponentLink2Description: DigiKey Link; ComponentLink2URL: http://digikey.com/product-detail/en/stmicroelectronics/SM6T15CAY/497-11808-1-ND/2756548; LastUpdated: 9/2/2020 1:28:15 AM; Lifecycle Status: Active; Minimum Order: 1; Mounting Type: Surface Mount; Operating Temperature: -55°C ~ 150°C (TJ); Package / Case: DO-214AA, SMB; Packaging: TapeAndReel; PartId: 8828; Part Status: Active; Price: 0.24; Series: Automotive, AEC-Q101, SM6TY, TRANSIL™; Supplier 1: DigiKey; Supplier Part Number 1: 497-11808-1-ND; Supplier Device Package: SMB (DO-214AA); Voltage - Clamping (Max) @ Ipp: 27.2V; Voltage - Reverse Standoff (Typ): 12.8V
footprint DO214AA SMB
pins: 1, 2

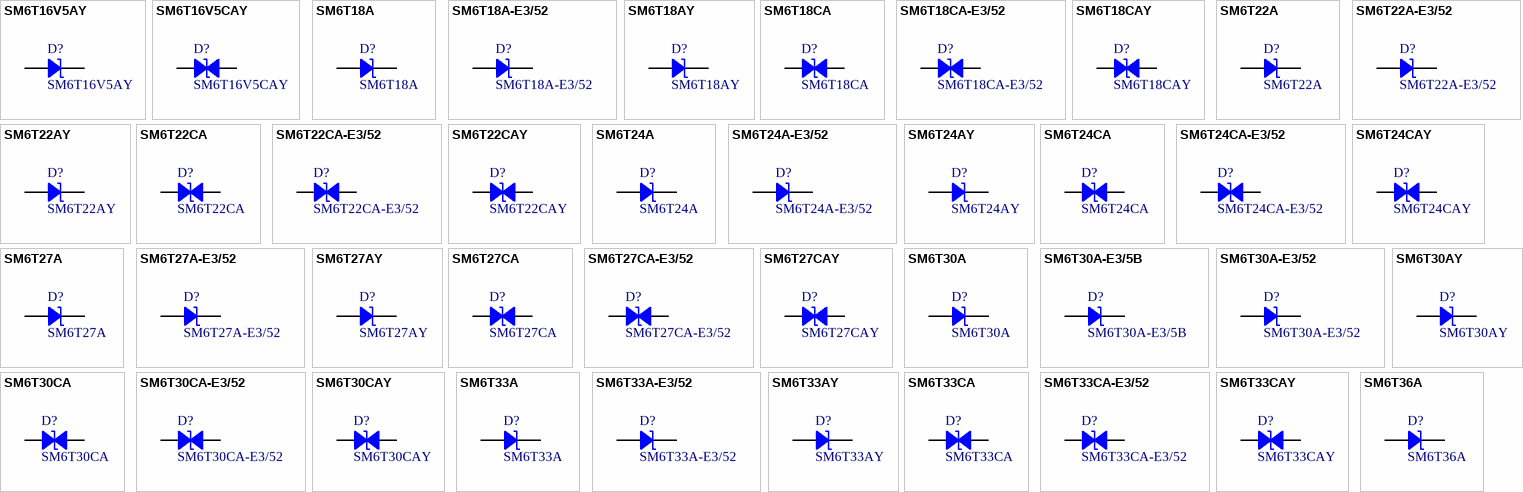
[diagram p42: symbols SM6T16V5AY to SM6T36A]

## SM6T16V5AY
designator D?
TVS DIODE 14.1V 29V SMB; Manufacturer: STMicroelectronics; Current - Peak Pulse (10/1000µs): 136A (8/20µs); Power Line Protection: No; Power - Peak Pulse: 600W; Type: Zener; Unidirectional Channels: 1; Voltage - Breakdown (Min): 15.7V; Part Number: SM6T16V5AY; Applications: Automotive; ComponentLink1Description: Datasheet; ComponentLink1URL: http://www.st.com/content/ccc/resource/technical/document/datasheet/7c/00/1c/38/a4/c1/4b/ae/CD00279657.pdf/files/CD00279657.pdf/jcr:content/translations/en.CD00279657.pdf; ComponentLink2Description: DigiKey Link; ComponentLink2URL: http://digikey.com/product-detail/en/stmicroelectronics/SM6T16V5AY/497-15256-1-ND/5170586; LastUpdated: 9/2/2020 1:19:48 AM; Lifecycle Status: Active; Minimum Order: 1; Mounting Type: Surface Mount; Operating Temperature: -55°C ~ 150°C (TJ); Package / Case: DO-214AA, SMB; Packaging: TapeAndReel; PartId: 11050; Part Status: Active; Price: 0.13; Series: Automotive, AEC-Q101, SM6TY, TRANSIL™; Supplier 1: DigiKey; Supplier Part Number 1: 497-15256-1-ND; Supplier Device Package: SMB (DO-214AA); Voltage - Clamping (Max) @ Ipp: 29V; Voltage - Reverse Standoff (Typ): 14.1V
footprint DO214AA SMB
pins: 1, 2

## SM6T16V5CAY
designator D?
TVS DIODE 14.1V 29V SMB; Manufacturer: STMicroelectronics; Bidirectional Channels: 1; Current - Peak Pulse (10/1000µs): 136A (8/20µs); Power Line Protection: No; Power - Peak Pulse: 600W; Type: Zener; Voltage - Breakdown (Min): 15.7V; Part Number: SM6T16V5CAY; Applications: Automotive; ComponentLink1Description: Datasheet; ComponentLink1URL: http://www.st.com/content/ccc/resource/technical/document/datasheet/7c/00/1c/38/a4/c1/4b/ae/CD00279657.pdf/files/CD00279657.pdf/jcr:content/translations/en.CD00279657.pdf; ComponentLink2Description: DigiKey Link; ComponentLink2URL: http://digikey.com/product-detail/en/stmicroelectronics/SM6T16V5CAY/497-15257-1-ND/5170587; LastUpdated: 9/2/2020 1:28:20 AM; Lifecycle Status: Active; Minimum Order: 1; Mounting Type: Surface Mount; Operating Temperature: -55°C ~ 150°C (TJ); Package / Case: DO-214AA, SMB; Packaging: TapeAndReel; PartId: 9383; Part Status: Active; Price: 0.13; Series: Automotive, AEC-Q101, SM6TY, TRANSIL™; Supplier 1: DigiKey; Supplier Part Number 1: 497-15257-1-ND; Supplier Device Package: SMB (DO-214AA); Voltage - Clamping (Max) @ Ipp: 29V; Voltage - Reverse Standoff (Typ): 14.1V
footprint DO214AA SMB
pins: 1, 2

## SM6T18A
designator D?
TVS DIODE 15.3V 32.5V SMB; Manufacturer: STMicroelectronics; Current - Peak Pulse (10/1000µs): 123A (8/20µs); Power Line Protection: No; Power - Peak Pulse: 600W; Type: Zener; Unidirectional Channels: 1; Voltage - Breakdown (Min): 17.1V; Part Number: SM6T18A; Applications: General Purpose; ComponentLink1Description: Datasheet; ComponentLink1URL: http://www.st.com/content/ccc/resource/technical/document/datasheet/6f/2d/a6/9e/56/51/48/15/CD00000725.pdf/files/CD00000725.pdf/jcr:content/translations/en.CD00000725.pdf; ComponentLink2Description: DigiKey Link; ComponentLink2URL: http://digikey.com/product-detail/en/stmicroelectronics/SM6T18A/497-7431-1-ND/1883412; LastUpdated: 9/2/2020 1:19:51 AM; Lifecycle Status: Active; Minimum Order: 1; Mounting Type: Surface Mount; Operating Temperature: -55°C ~ 150°C (TJ); Package / Case: DO-214AA, SMB; Packaging: TapeAndReel; PartId: 11403; Part Status: Active; Price: 0.15; Series: SM6T, TRANSIL™; Supplier 1: DigiKey; Supplier Part Number 1: 497-7431-1-ND; Supplier Device Package: SMB (DO-214AA); Voltage - Clamping (Max) @ Ipp: 32.5V; Voltage - Reverse Standoff (Typ): 15.3V
footprint DO214AA SMB
pins: 1, 2

## SM6T18A-E3/52
designator D?
TVS DIODE 15.3V 25.2V DO214AA; Manufacturer: Vishay Semiconductor Diodes Division; Current - Peak Pulse (10/1000µs): 24A; Power Line Protection: No; Power - Peak Pulse: 600W; Type: Zener; Unidirectional Channels: 1; Voltage - Breakdown (Min): 17.1V; Part Number: SM6T18A-E3/52; Applications: General Purpose; ComponentLink1Description: Datasheet; ComponentLink1URL: http://www.vishay.com/docs/88385/sm6t.pdf; ComponentLink2Description: DigiKey Link; ComponentLink2URL: http://digikey.com/product-detail/en/vishay-semiconductor-diodes-division/SM6T18A-E3-52/SM6T18A-E3-52GICT-ND/3847614; LastUpdated: 9/2/2020 1:19:48 AM; Lifecycle Status: Active; Minimum Order: 1; Mounting Type: Surface Mount; Operating Temperature: -65°C ~ 150°C (TJ); Package / Case: DO-214AA, SMB; Packaging: TapeAndReel; PartId: 11029; Part Status: Active; Price: 0.19; Series: SM6T, TransZorb®; Supplier 1: DigiKey; Supplier Part Number 1: SM6T18A-E3/52GICT-ND; Supplier Device Package: DO-214AA (SMBJ); Voltage - Clamping (Max) @ Ipp: 25.2V; Voltage - Reverse Standoff (Typ): 15.3V
footprint DO214AA SMB
pins: 1, 2